# Altium footprint library TestPoint.PcbLib: 1 footprints
Each footprint in its own frame and in the unit in brackets; x right, y up, seen from the top. Pads: shape width x height; smd on the part's side, far side on the other; paste and mask are expansions set on the pad; w line width, h text height; cw(c..) or ccw(c..) is an arc to the next point about the centre after c.
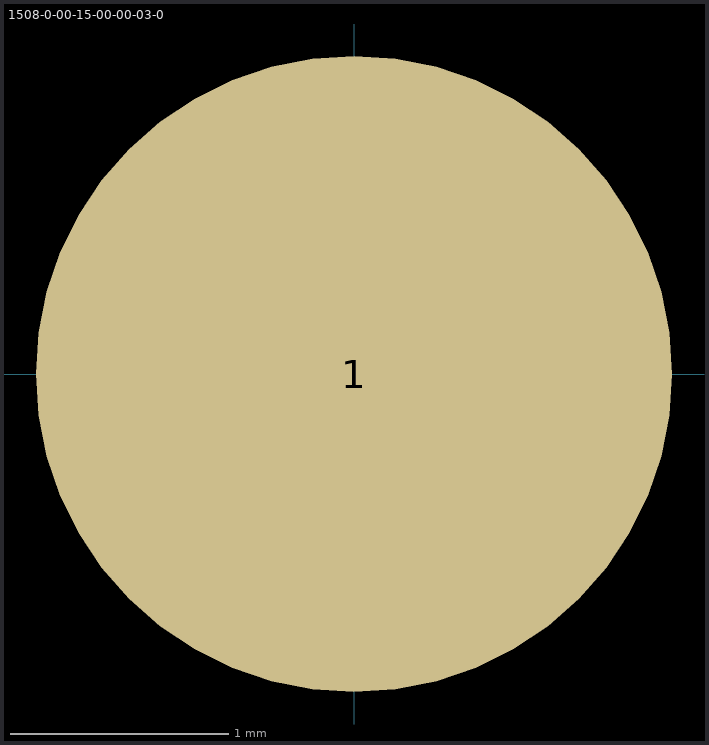
[diagram p0: the footprint, top view; thin cyan lines are the x and y axes]

## 1508-0-00-15-00-00-03-0 [mil]
pads (1):
  round 115 smd paste-10 mask+1.5: 1(0,0)
3D body: height 180, standoff 55, extent -9.14,-8.98 8.78,8.99
3D body: height 10, standoff 0, extent -54.78,-54.89 54.78,54.9
3D body: height 55, standoff 10, extent -49.82,-49.9 49.79,49.9